# EAGLE library part 2X6-W (library Pinhead)
Ph2x6-W
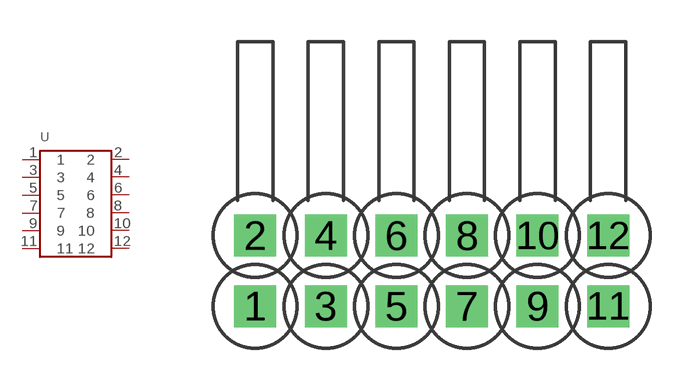
[diagram p10: symbol with the pads of 2X6-W; footprint 2X6-W]

Designator prefix -

## 2X6-W  [2X6-W]
1  1
2  2
3  3
4  4
5  5
6  6
7  7
8  8
9  9
10  10
11  11
12  12

## Footprint 2X6-W (pad centres in mm)
Ph2x6-W
drill 1 square: 1 -6.35,-1.27; 2 -6.35,1.27; 3 -3.81,-1.27; 4 -3.81,1.27; 5 -1.27,-1.27; 6 -1.27,1.27; 7 1.27,-1.27; 8 1.27,1.27; 9 3.81,-1.27; 10 3.81,1.27; 11 6.35,-1.27; 12 6.35,1.27